# EAGLE library part MIC2253 (library Custom_old)
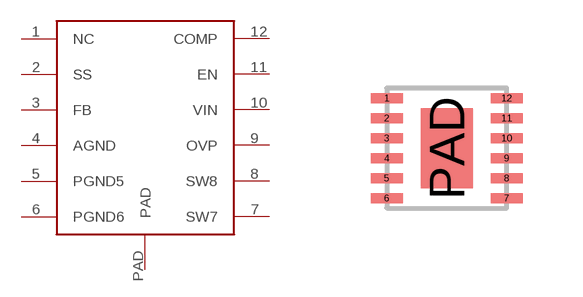
[diagram p1: symbol with the pads of DFN-12; footprint DFN-12]

Designator prefix -

## MIC2253  [DFN-12]
1  NC
2  SS
3  FB
4  AGND
5  PGND5
6  PGND6
7  SW7
8  SW8
9  OVP
10  VIN
11  EN
12  COMP
PAD  PAD

## Footprint DFN-12 (pad centres in mm)
smd 0.8 x 0.25: 1 -1.5,1.25; 2 -1.5,0.75; 3 -1.5,0.25; 4 -1.5,-0.25; 5 -1.5,-0.75; 6 -1.5,-1.25; 7 1.5,-1.25; 8 1.5,-0.75; 9 1.5,-0.25; 10 1.5,0.25; 11 1.5,0.75; 12 1.5,1.25
smd 1.3 x 2: PAD 0,0